# Altium footprint library PCBLibPutallaz.PcbLib: 41 footprints (part 3 of 3)
Each footprint in its own frame and in the unit in brackets; x right, y up, seen from the top. Pads: shape width x height; smd on the part's side, far side on the other; paste and mask are expansions set on the pad; w line width, h text height; cw(c..) or ccw(c..) is an arc to the next point about the centre after c.
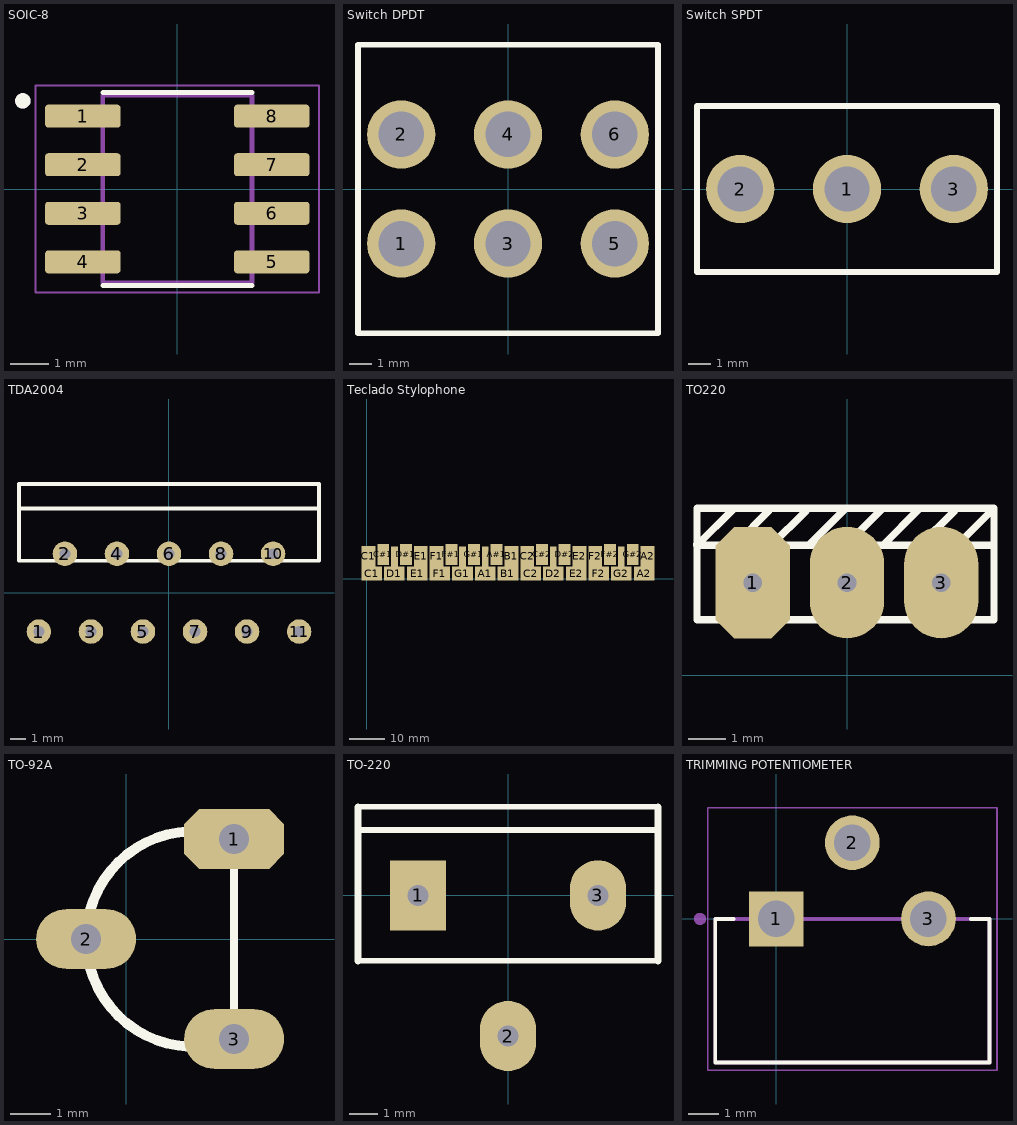
[diagram p2: the footprints below, top view; thin cyan lines are the x and y axes]

## SOIC-8 [mm]
pads (8):
  rrect25% 1.97x0.6 smd: 1(-2.47,1.905) 2(-2.47,0.635) 3(-2.47,-0.635) 4(-2.47,-1.905) 5(2.47,-1.905) 6(2.47,-0.635) 7(2.47,0.635) 8(2.47,1.905)
Top Overlay:
  circle w0.2: c-4.04,2.305 r0.1
  lines w0.127: -1.95,-2.525 1.95,-2.525 ; -1.95,2.525 1.95,2.525
Mechanical 13:
  circle w0.2: c-4.04,2.305 r0.1
  lines w0.127: -1.95,-2.452 -1.95,2.452 1.95,2.452 1.95,-2.452 -1.95,-2.452
Mechanical 15:
  lines w0.05: -3.705,-2.702 -3.705,2.702 3.705,2.702 3.705,-2.702 -3.705,-2.702
3D body "step_temp.STEP": height 1.75, standoff 0, extent -3,-2.45 3,2.45

## Switch DPDT [mm]
pads (6):
  round 3 hole 2: 1(-4.7,-2.4) 2(-4.7,2.4) 3(0,-2.4) 4(0,2.4) 5(4.7,-2.4) 6(4.7,2.4)
Top Overlay:
  lines w0.254: -6.6,-6.35 6.6,-6.35 6.6,6.35 -6.6,6.35 -6.6,-6.35

## Switch SPDT [mm]
pads (3):
  round 3 hole 2: 1(0,0) 2(-4.7,0) 3(4.7,0)
Top Overlay:
  lines w0.254: -6.6,-3.65 -6.6,3.65 6.6,3.65 6.6,-3.65 -6.6,-3.65

## TDA2004 [mm]
pads (11):
  round 1.6 hole 0.7: 1(-8.5,-2.54) 2(-6.8,2.54) 3(-5.1,-2.54) 4(-3.4,2.54) 5(-1.7,-2.54) 6(0,2.54) 7(1.7,-2.54) 8(3.4,2.54) 9(5.1,-2.54) 10(6.8,2.54) 11(8.5,-2.54)
Top Overlay:
  lines w0.254: -9.8,5.49 9.8,5.49 ; -9.8,2.09 9.8,2.09 9.8,7.09 -9.8,7.09 -9.8,2.09

## Teclado Stylophone [mm]
pads (35):
  rect 5.9x4 smd: A1(33.959,1.5) A2(79.5,1.5) B1(40.5,1.5) C1(1.5,1.5) C2(47,1.5) D1(7.959,1.5) D2(53.459,1.5) E1(14.5,1.5) E2(60,1.5) F1(21,1.5) F2(66.5,1.5) G1(27.459,1.5) G2(72.959,1.5)
  rect 1.96x6 smd: A1(33.959,6.338) D1(7.959,6.338) D2(53.459,6.338) G1(27.459,6.338) G2(72.959,6.338)
  rect 3.93x6 smd: A2(80.485,6.429) B1(41.485,6.429) C1(0.515,6.429) C2(46.015,6.429) E1(15.485,6.429) E2(60.985,6.429) F1(20.015,6.429) F2(65.515,6.429)
  rect 3.43x6 smd: A#1(37.25,7) C#1(4.75,7) C#2(50.25,7) D#1(11.25,7) D#2(56.75,7) F#1(24.25,7) F#2(69.75,7) G#1(30.75,7) G#2(76.25,7)

## TO220 [mm] "Encapsulado TO220"
pads (3):
  oct 2x3 hole 0.5: 1(-2.54,2.5)
  oval 2x3 hole 0.5: 2(0,2.5) 3(2.54,2.5)
Top Overlay:
  lines w0.2: -4.015,3.5 -3.54,3.5 -1.484,3.5 3.96,3.5 ; -4.015,3.525 -3.09,4.45 ; -2.99,3.55 -2.103,4.438 ; -2.04,3.5 -1.115,4.425 ; -0.99,3.55 -0.09,4.45 ; 0.01,3.55 0.91,4.45 ; 0.985,3.525 1.935,4.475 ; 1.96,3.5 2.885,4.425 ; 3.085,3.625 3.96,4.5 ; 3.96,3.5 3.96,1.5 -4.04,1.5 -4.04,3.5 -4.04,4.5 3.96,4.5 ; 3.96,3.5 3.96,4.5
  lines w0.254: -4.015,3.5 -4.015,3.525
Drill Guide:
  lines w0.254: -0.79,3.3 -0.79,3.775 ; -0.79,4.25 -0.79,4.75 ; -0.04,3.1 -0.04,5 ; 0.71,3.275 0.71,3.75 ; 0.71,4.225 0.71,4.75
3D body "BTA16-600B.STEP": height 19.65, standoff -10.25, extent -5.1,1 5.1,5.5

## TO-92A [mm] "TO, Flat Index; 3 In-Line, Axial Leads; Body Dia. 4.5mm; Leads 0.51 x 0.48 mm (max)"
height 6.86
pads (3):
  oct 2.5x1.5 hole 0.75: 1(2.7,2.5)
  oval 2.5x1.5 hole 0.75: 2(-1,0) 3(2.7,-2.5)
Top Overlay:
  lines w0.2: 2.7,-2.5 2.7,2.5
  lines w0.254: 2.7,-2.5 cw(c1.695,0) 2.7,2.5

## TO-220 [mm] "SIP with Mounting Hole; 3 Leads; Body 26 x 20 x 5 mm (typ); Pitch 5.45 mm"
height 29
pads (3):
  rect 2x2.5 hole 0.75: 1(-3.2,0)
  oval 2x2.5 hole 0.75: 2(0,-5) 3(3.2,0)
Top Overlay:
  lines w0.2: -5.335,-2.325 5.335,-2.325 ; -5.335,2.325 5.335,2.325 ; -5.335,3.15 5.335,3.15
  lines w0.254: -5.335,-2.325 -5.335,3.15 ; 5.335,-2.325 5.335,3.15

## TRIMMING POTENTIOMETER [mm]
pads (3):
  rect 1.8x1.8 hole 1.2: 1(0,0)
  round 1.8 hole 1.2: 2(2.5,2.5) 3(5,0)
Top Overlay:
  lines w0.127: -1.4,0 -2,0 -2,-4.72 7,-4.72 7,0 6.4,0
Mechanical 13:
  circle w0.2: c-2.5,0 r0.1
  lines w0.127: -2,-4.72 -2,0 7,0 7,-4.72 -2,-4.72
Mechanical 15:
  lines w0.05: -2.25,-4.97 7.25,-4.97 7.25,3.65 -2.25,3.65 -2.25,-4.97
3D body "3309w-1-501.stp": height 10.49, standoff -5.99, extent -2.007,-4.526 6.985,3.556